# EAGLE library part 66201621022 (library Wuerth_Elektronik_eiCan_08_Micro_Power_Connectors)
WR-MPC3 3.00mm Male Dual Row Angled Header with Plastic Pegs, 16 Pins
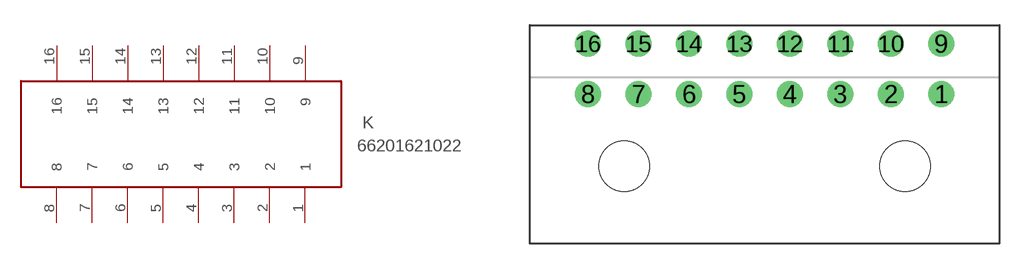
[diagram p35: symbol with the pads of 66201621022; footprint 66201621022]

Designator prefix K

## 66201621022  [66201621022]
1  1
2  2
3  3
4  4
5  5
6  6
7  7
8  8
9  9
10  10
11  11
12  12
13  13
14  14
15  15
16  16

## Footprint 66201621022 (pad centres in mm)
WR-MPC3 3.00mm Male Dual Row Angled Header with Plastic Pegs, 16 Pins
drill 1.02 round: 1 0,-1.5; 2 -3,-1.5; 3 -6,-1.5; 4 -9,-1.5; 5 -12,-1.5; 6 -15,-1.5; 7 -18,-1.5; 8 -21,-1.5; 9 0,1.5; 10 -3,1.5; 11 -6,1.5; 12 -9,1.5; 13 -12,1.5; 14 -15,1.5; 15 -18,1.5; 16 -21,1.5
hole 3 at -2.15,-5.8
hole 3 at -18.85,-5.8